# Altium integrated library M0_EVM_PKG.IntLib: 16 symbols
Pins are listed as number, name and electrical type; pins without a type are passive.

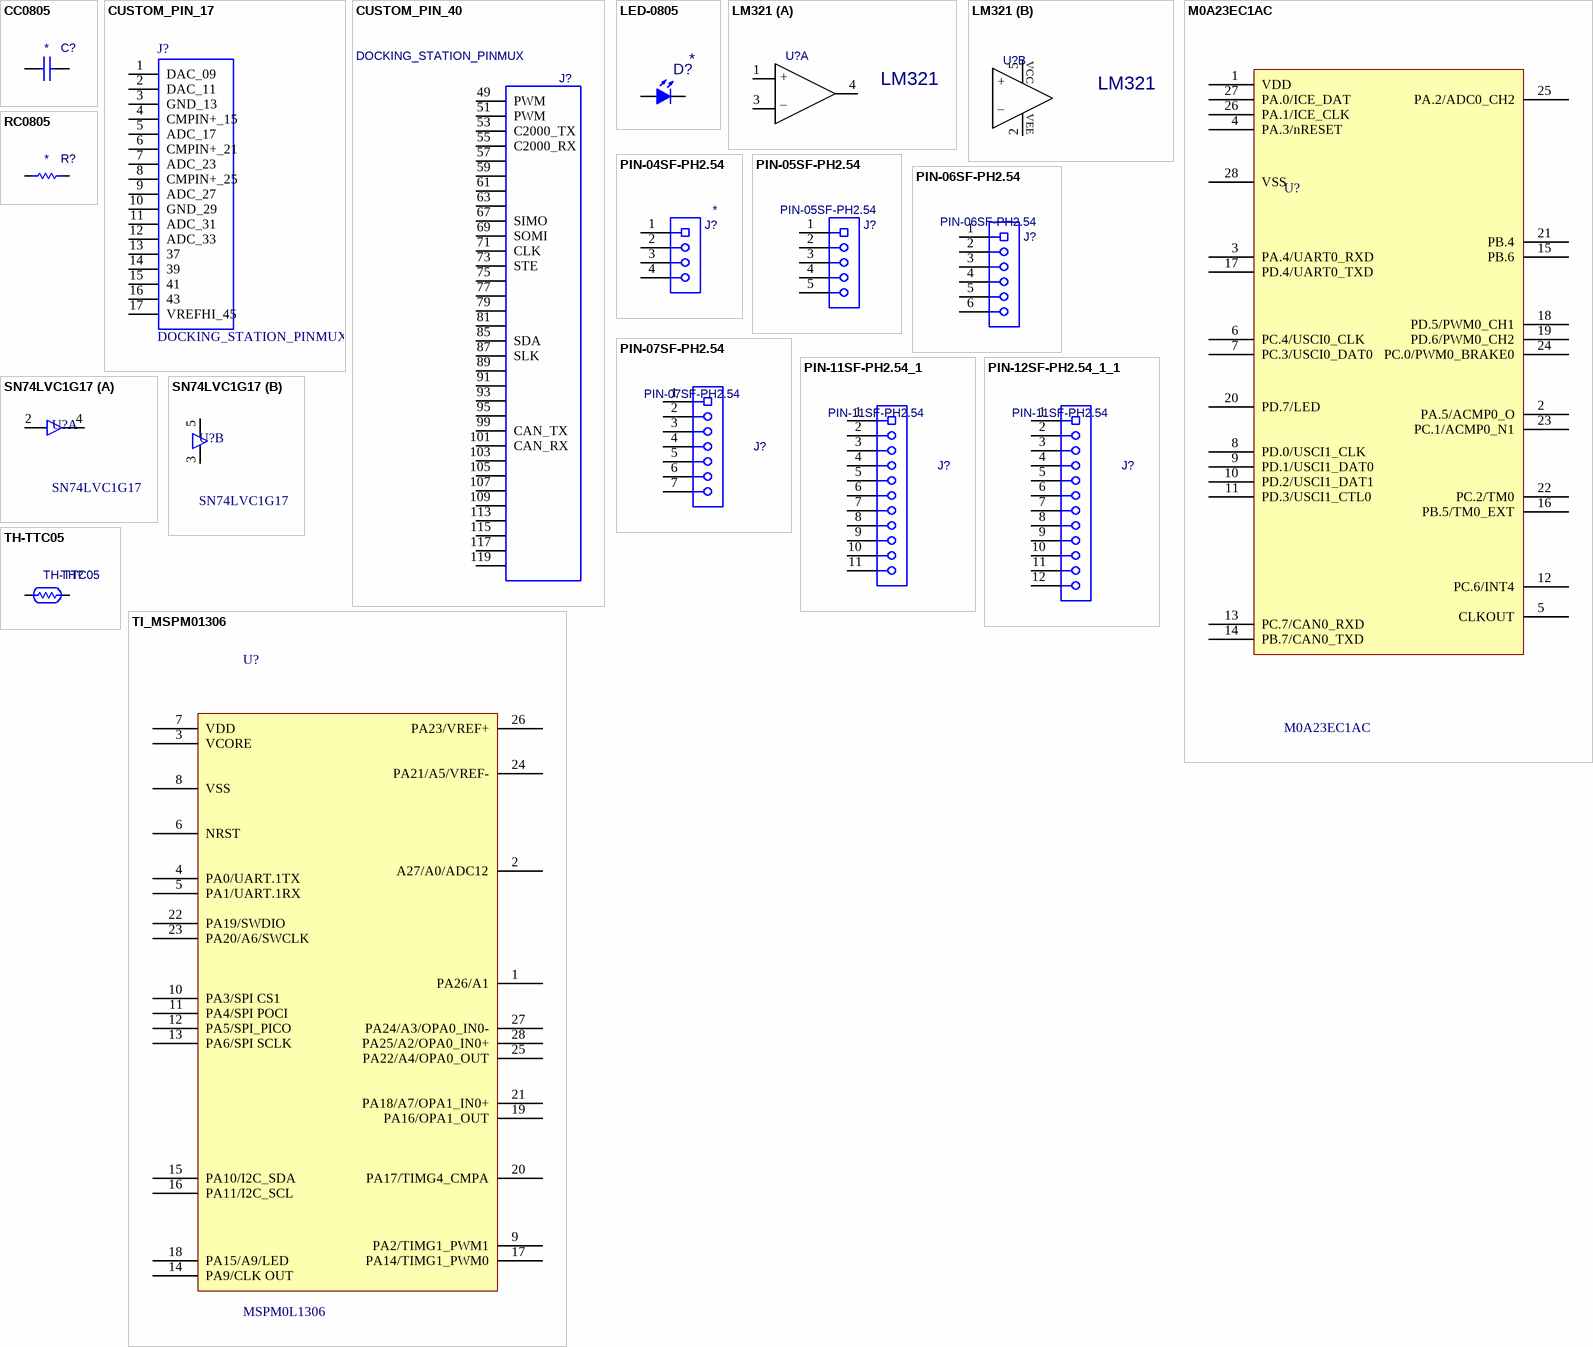
[diagram p0: symbols CC0805 to TI_MSPM01306]

## CC0805
designator C?
Capacitance; PartNumber: 22E5-50101J01; Cost: *; ModifyDate: 08/19/2014 17:36:46; ComponentLink1Description: DATA; ComponentLink1URL: \\172.16.1.235\Layout-Power\POWER-LIB\MT\DATA\22大類\22EX-xxxxxxx1 嶄富 CSL DC250V X7R.pdf; SIZE: 0805; Value: *; PartNumber1: *
footprint CC0805
pins: 1, 2

## CUSTOM_PIN_17
designator J?, comment DOCKING_STATION_PINMUX
ControlCARD Docking Station [R6.0]; PartNumber: *; Cost: *; ModifyDate: *; SIZE: PIN_17; Value: DOCKING_STATION_PINMUX
footprint PIN-17-roger-MT
pins: 1 DAC_09, 2 DAC_11, 3 GND_13, 4 CMPIN+_15, 5 ADC_17, 6 CMPIN+_21, 7 ADC_23, 8 CMPIN+_25, 9 ADC_27, 10 GND_29, 11 ADC_31, 12 ADC_33, 13 37, 14 39, 15 41, 16 43, 17 VREFHI_45

## CUSTOM_PIN_40
designator J?, comment DOCKING_STATION_PINMUX
ControlCARD Docking Station [R6.0]; PartNumber: *; ModifyDate: 05/26/2014 16:47:17; Cost: *; SIZE: PIN_40; Value: DOCKING_STATION_PINMUX
footprint ANA
footprint WF31-roger
pins: 49 PWM, 51 PWM, 53 C2000_TX, 55 C2000_RX, 57, 59, 61, 63, 67 SIMO, 69 SOMI, 71 CLK, 73 STE, 75, 77, 79, 81, 85 SDA, 87 SLK, 89, 91, 93, 95, 99 CAN_TX, 101 CAN_RX, 103, 105, 107, 109, 113, 115, 117, 119

## LED-0805
designator D?
LED; PartNumber: 3122-0DT10201; ModifyDate: 08/21/2019 16:04:50; SIZE: 0805; Cost: *; Value: *
footprint LED-0805
pins: 1 A, 2 K

## LM321
designator U?
SOT-23-5L OPERATIONAL AMPLIFIER; PartNumber: 2711-321MF001; Cost: *; ModifyDate: *; SIZE: *; Value: LM321
footprint DBV(R-PDSO-G5)
part A pins: 1 +, 3 -, 4 OUT
part B pins: 2 -V, 5 +V
part A text: _
part B text: VCC; _; VEE

## M0A23EC1AC
designator U?
32BIT 32KB FLASH 28TSSOP; PartNumber: *; Cost: *; SIZE: 28TSSOP; ModifyDate: *; Value: M0A23EC1AC
footprint TSSOP28-P0.65-7.5
pins: 1 VDD, 2 PA.5/ACMP0_O, 3 PA.4/UART0_RXD, 4 PA.3/nRESET, 5 CLKOUT, 6 PC.4/USCI0_CLK, 7 PC.3/USCI0_DAT0, 8 PD.0/USCI1_CLK, 9 PD.1/USCI1_DAT0, 10 PD.2/USCI1_DAT1, 11 PD.3/USCI1_CTL0, 12 PC.6/INT4, 13 PC.7/CAN0_RXD, 14 PB.7/CAN0_TXD, 15 PB.6, 16 PB.5/TM0_EXT, 17 PD.4/UART0_TXD, 18 PD.5/PWM0_CH1, 19 PD.6/PWM0_CH2, 20 PD.7/LED, 21 PB.4, 22 PC.2/TM0, 23 PC.1/ACMP0_N1, 24 PC.0/PWM0_BRAKE0, 25 PA.2/ADC0_CH2, 26 PA.1/ICE_CLK, 27 PA.0/ICE_DAT, 28 VSS

## PIN-04SF-PH2.54
designator J?
Connector; Value: *; PartNumber: *; ModifyDate: 05/26/2014 16:47:33; ComponentLink1Description: DATA; ComponentLink1URL: L:\LAYOUT\Lib\GW-DATA\NEW-DATA\2191SM-XXX-1613-CR.pdf; SIZE: PIN-04SF-PH2.54; Cost: *
footprint PIN-04SF-PH2.54
footprint PIN-04SF-PH2.54-L_UP
footprint PIN-04SF-PH2.54-L-BOWN
pins: 1, 2, 3, 4

## PIN-05SF-PH2.54
designator J?
Connector; Value: *; PartNumber: *; ModifyDate: 05/26/2014 16:47:33; ComponentLink1Description: DATA; ComponentLink1URL: L:\LAYOUT\Lib\GW-DATA\NEW-DATA\2191SM-XXX-1613-CR.pdf; Cost: *; SIZE: *
footprint PIN-05SF-PH2.54
pins: 1, 2, 3, 4, 5

## PIN-06SF-PH2.54
designator J?
Connector; Value: *; PartNumber: *; ModifyDate: 05/26/2014 16:47:33; ComponentLink1Description: DATA; ComponentLink1URL: L:\LAYOUT\Lib\GW-DATA\NEW-DATA\2191SM-XXX-1613-CR.pdf; Cost: *; SIZE: *
footprint PIN-06SF-PH2.54
pins: 1, 2, 3, 4, 5, 6

## PIN-07SF-PH2.54
designator J?
Connector; Value: *; PartNumber: *; ModifyDate: 05/26/2014 16:47:33; ComponentLink1Description: DATA; ComponentLink1URL: L:\LAYOUT\Lib\GW-DATA\NEW-DATA\2191SM-XXX-1613-CR.pdf; Cost: *; SIZE: *
footprint PIN-07SF-PH2.54
pins: 1, 2, 3, 4, 5, 6, 7

## PIN-11SF-PH2.54_1
designator J?, comment PIN-11SF-PH2.54
Connector; Value: *; PartNumber: *; ModifyDate: 05/26/2014 16:47:33; ComponentLink1Description: DATA; ComponentLink1URL: L:\LAYOUT\Lib\GW-DATA\NEW-DATA\2191SM-XXX-1613-CR.pdf; Cost: *; SIZE: *
footprint PIN-11SF-PH2.54
pins: 1, 2, 3, 4, 5, 6, 7, 8, 9, 10, 11

## PIN-12SF-PH2.54_1_1
designator J?, comment PIN-11SF-PH2.54
Connector; Value: *; PartNumber: *; ModifyDate: 05/26/2014 16:47:33; ComponentLink1Description: DATA; ComponentLink1URL: L:\LAYOUT\Lib\GW-DATA\NEW-DATA\2191SM-XXX-1613-CR.pdf; Cost: *; SIZE: *
footprint PIN-12SF-PH2.54
pins: 1, 2, 3, 4, 5, 6, 7, 8, 9, 10, 11, 12

## RC0805
designator R?
Resistance; PartNumber: 20M0S10K0B221; SIZE: 0805; Cost: *; ModifyDate: 08/19/2014 17:36:57; ComponentLink1Description: DATA; ComponentLink1URL: \\172.16.1.235\Layout-Power\MT\DATA\20大類\20cx-xxxxx21 YAGEO.pdf; Value: *
footprint RC0805 (Footprint not found)
pins: 1, 2

## SN74LVC1G17
designator U?
Single Schmitt-Trigger Buffer, DCK0005A, SMALL T&R; PartNumber: 2711-1G08DR01; ComponentLink1Description: Manufacturer URL; ComponentLink1URL: http://www.ti.com/; ComponentLink2Description: Datasheet; ComponentLink2URL: http://www.ti.com/lit/ds/symlink/sn74lvc1g17.pdf; Cost: *; ModifyDate: *; SIZE: *; Value: SN74LVC1G17
footprint SC70-5_PH0.65
part A pins: 2 A "Input", 4 Y "Output"
part B pins: 1 NC, 3 GND "Output", 5 VCC "Input"

## TH-TTC05
designator TH?
Thermistor; PartNumber: 2505-24730021; SIZE: *; Cost: *; ModifyDate: 08/19/2014 17:36:59; ComponentLink1Description: DATA; ComponentLink1URL: \\172.16.1.235\Layout-Power\MT\DATA\20大類\20cx-xxxxx21 YAGEO.pdf; Value: TH-TTC05
footprint TH-TTC05
pins: 1, 2

## TI_MSPM01306
designator U?, comment MSPM0L1306
32-bit Cortex-M0+ 28-pin VSSOP; Cost: *; SIZE: 28-pin VSSOP (DGS); ModifyDate: *; PartNumber: *; Value: MSPM0L1306
footprint VSSOP28
pins: 1 PA26/A1, 2 A27/A0/ADC12, 3 VCORE, 4 PA0/UART.1TX, 5 PA1/UART.1RX, 6 NRST, 7 VDD, 8 VSS, 9 PA2/TIMG1_PWM1, 10 PA3/SPI CS1, 11 PA4/SPI POCI, 12 PA5/SPI_PICO , 13 PA6/SPI SCLK , 14 PA9/CLK OUT, 15 PA10/I2C_SDA, 16 PA11/I2C_SCL, 17 PA14/TIMG1_PWM0, 18 PA15/A9/LED, 19 PA16/OPA1_OUT, 20 PA17/TIMG4_CMPA, 21 PA18/A7/OPA1_IN0+, 22 PA19/SWDIO, 23 PA20/A6/SWCLK, 24 PA21/A5/VREF-, 25 PA22/A4/OPA0_OUT, 26 PA23/VREF+, 27 PA24/A3/OPA0_IN0-, 28 PA25/A2/OPA0_IN0+